# EAGLE library part BH1745NUC-E2 (library lib)
Photosensor Optical Sensors - Light to Digital Converters ALS Dig 16bit Color Sensor IC
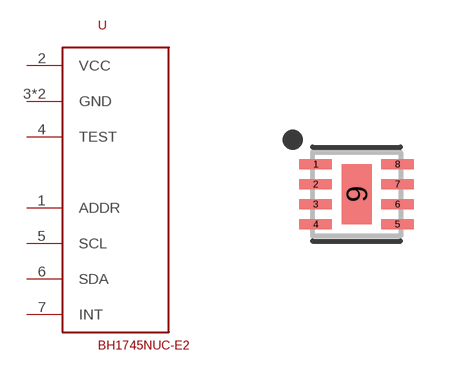
[diagram p2: symbol with the pads of SON50P210X200X60-9T75X150N; footprint SON50P210X200X60-9T75X150N]

Designator prefix U

## BH1745NUC-E2WSON008X2120 (LINK: https://eu.mouser.com/ProductDetail/ROHM-Semiconductor/BH1745NUC-E2?qs=sGAEpiMZZMsl3GqdWuceyV%252BQQM5BSZYEsH1kp3vGHd8HHhaGJnnfYQ%3D%3D; MPN: BH1745NUC-E2; SUPPLIER: Mouser)  [SON50P210X200X60-9T75X150N]
1  ADDR  in
2  VCC  pwr
3  GND  pwr
4  TEST  in
5  SCL  in
6  SDA
7  INT  out
9  GND  pwr

## Footprint SON50P210X200X60-9T75X150N (pad centres in mm)
8-SON (DFN), 0.50 mm pitch, 2.00 X 2.10 X 0.60 mm body, 1.50 X 0.75 mm thermal pad 8-pin SON (DFN) package with 0.50 mm pitch with body size 2.00 X 2.10 X 0.60 mm and thermal pad size 1.50 X 0.75 mm
smd 0.813 x 0.254: 1 -1.025,0.75; 2 -1.025,0.25; 3 -1.025,-0.25; 4 -1.025,-0.75; 5 1.025,-0.75; 6 1.025,-0.25; 7 1.025,0.25; 8 1.025,0.75
smd 0.75 x 1.5: 9 0,0